# Altium schematic symbol library STM8.SchLib: 8 symbols
Pins are listed as number, name and electrical type; pins without a type are passive.

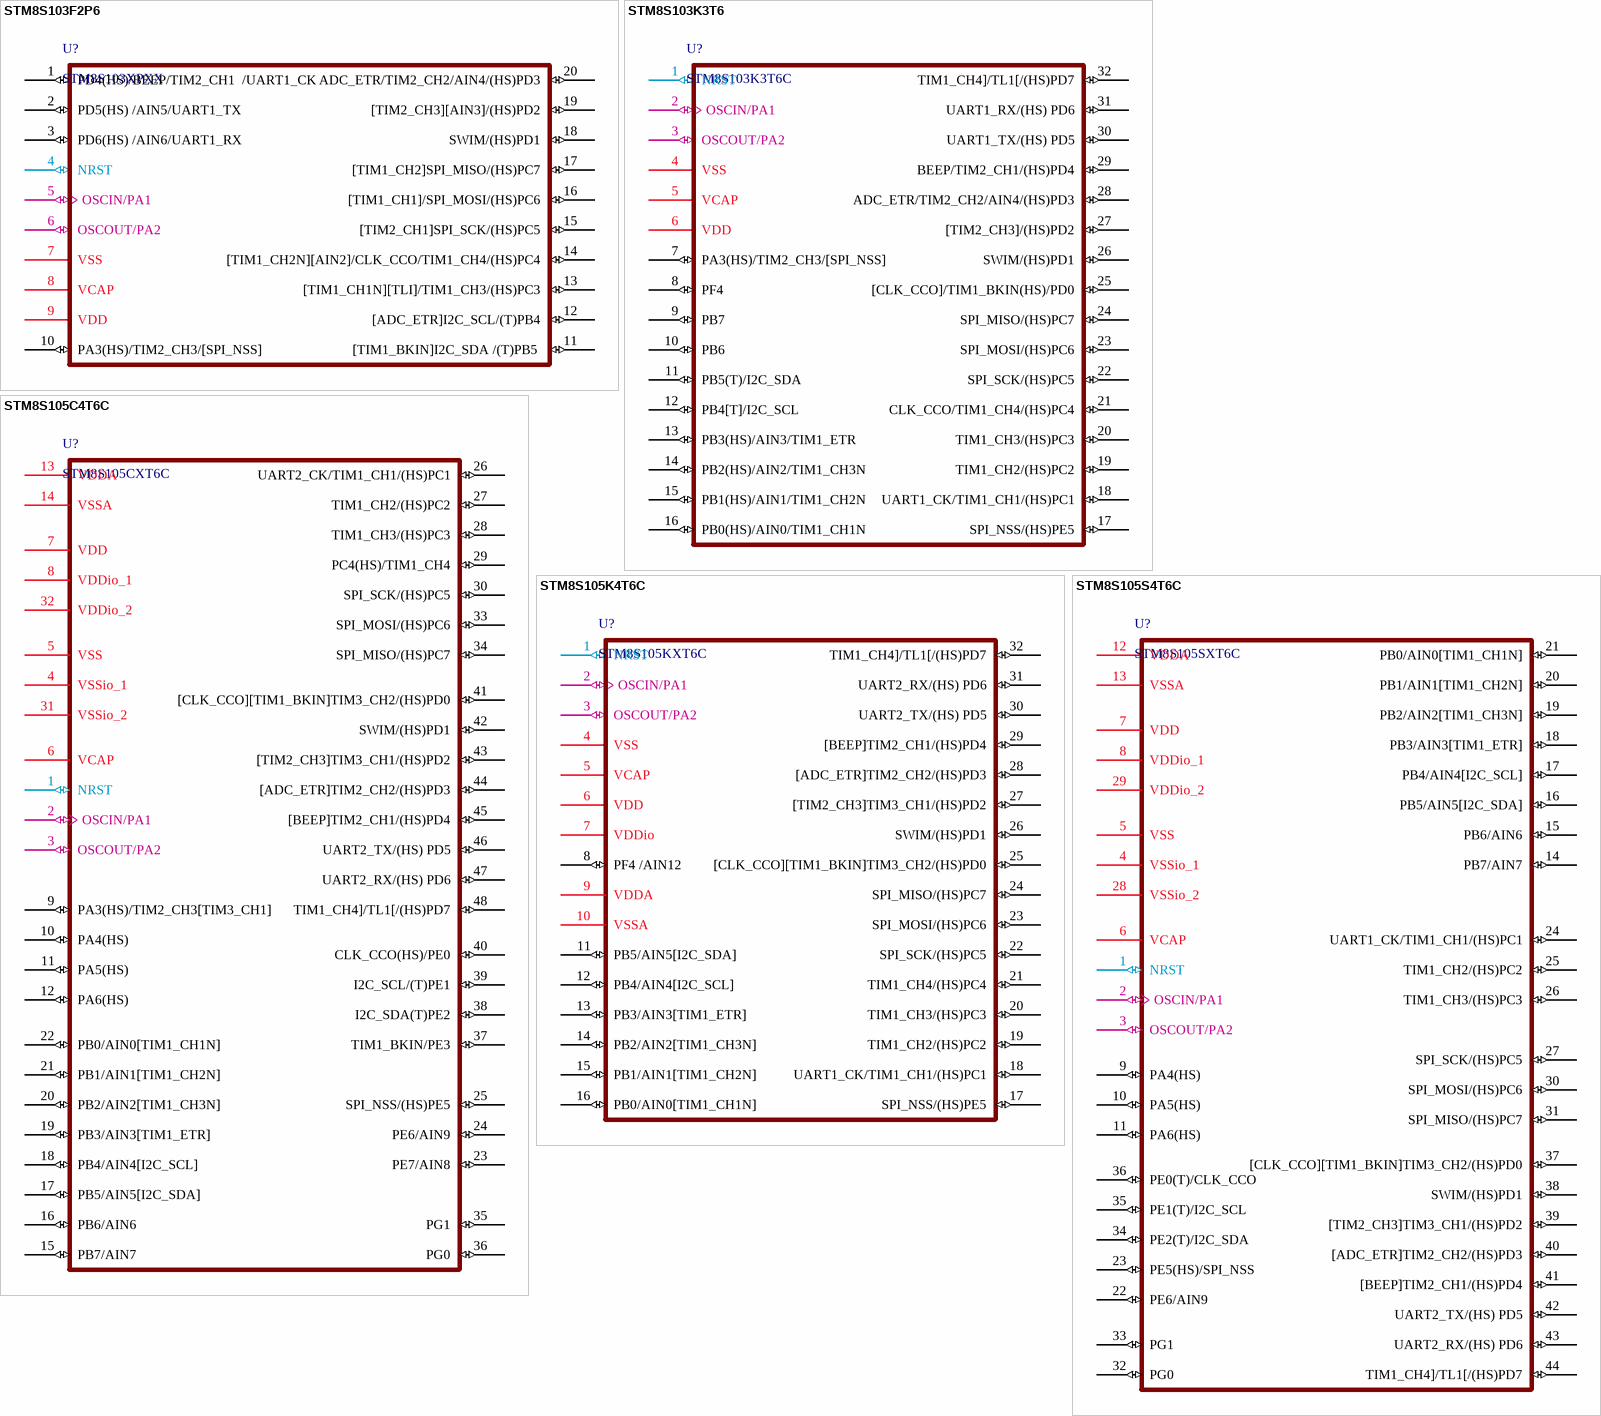
[diagram p0: symbols STM8S103F2P6 to STM8S105S4T6C]

## STM8S103F2P6
designator U?, comment STM8S103XPXX
ST 8-bit  Microcontroller
footprint TSSOP20 (20-pin, 4.40 mm body, 0.65 mm pitch)
pins: 1 PD4(HS)/BEEP/TIM2_CH1  /UART1_CK (io), 2 PD5(HS) /AIN5/UART1_TX (io), 3 PD6(HS) /AIN6/UART1_RX (io), 4 NRST (io), 5 OSCIN/PA1 (io), 6 OSCOUT/PA2 (io), 7 VSS (power), 8 VCAP (power), 9 VDD (power), 10 PA3(HS)/TIM2_CH3/[SPI_NSS]   (io), 11 [TIM1_BKIN]I2C_SDA /(T)PB5  (io), 12 [ADC_ETR]I2C_SCL/(T)PB4 (io), 13 [TIM1_CH1N][TLI]/TIM1_CH3/(HS)PC3 (io), 14 [TIM1_CH2N][AIN2]/CLK_CCO/TIM1_CH4/(HS)PC4 (io), 15 [TIM2_CH1]SPI_SCK/(HS)PC5 (io), 16 [TIM1_CH1]/SPI_MOSI/(HS)PC6 (io), 17 [TIM1_CH2]SPI_MISO/(HS)PC7 (io), 18 SWIM/(HS)PD1 (io), 19 [TIM2_CH3][AIN3]/(HS)PD2 (io), 20 ADC_ETR/TIM2_CH2/AIN4/(HS)PD3 (io)

## STM8S103K3T6
designator U?, comment STM8S103K3T6C
ST 8-bit  Microcontroller
footprint TQFP32 (Thin QFP, 32-Leads, Body 7x7mm, Pitch 0.8mm, IPC Low Density)
pins: 1 NRST (io), 2 OSCIN/PA1 (io), 3 OSCOUT/PA2 (io), 4 VSS (power), 5 VCAP (power), 6 VDD (power), 7 PA3(HS)/TIM2_CH3/[SPI_NSS]   (io), 8 PF4  (io), 9 PB7 (io), 10 PB6 (io), 11 PB5(T)/I2C_SDA (io), 12 PB4[T]/I2C_SCL (io), 13 PB3(HS)/AIN3/TIM1_ETR (io), 14 PB2(HS)/AIN2/TIM1_CH3N (io), 15 PB1(HS)/AIN1/TIM1_CH2N (io), 16 PB0(HS)/AIN0/TIM1_CH1N (io), 17 SPI_NSS/(HS)PE5 (io), 18 UART1_CK/TIM1_CH1/(HS)PC1 (io), 19 TIM1_CH2/(HS)PC2 (io), 20 TIM1_CH3/(HS)PC3 (io), 21 CLK_CCO/TIM1_CH4/(HS)PC4 (io), 22 SPI_SCK/(HS)PC5 (io), 23 SPI_MOSI/(HS)PC6 (io), 24 SPI_MISO/(HS)PC7 (io), 25 [CLK_CCO]/TIM1_BKIN(HS)/PD0 (io), 26 SWIM/(HS)PD1 (io), 27 [TIM2_CH3]/(HS)PD2 (io), 28 ADC_ETR/TIM2_CH2/AIN4/(HS)PD3 (io), 29 BEEP/TIM2_CH1/(HS)PD4 (io), 30 UART1_TX/(HS) PD5 (io), 31 UART1_RX/(HS) PD6 (io), 32 TIM1_CH4]/TL1[/(HS)PD7 (io)

## STM8S105C4T6C
designator U?, comment STM8S105CXT6C
ST 8-bit  Microcontroller
footprint LQFP48
pins: 1 NRST (io), 2 OSCIN/PA1 (io), 3 OSCOUT/PA2 (io), 4 VSSio_1 (power), 5 VSS (power), 6 VCAP (power), 7 VDD (power), 8 VDDio_1 (power), 9 PA3(HS)/TIM2_CH3[TIM3_CH1] (io), 10 PA4(HS) (io), 11 PA5(HS) (io), 12 PA6(HS) (io), 13 VDDA (power), 14 VSSA (power), 15 PB7/AIN7 (io), 16 PB6/AIN6 (io), 17 PB5/AIN5[I2C_SDA] (io), 18 PB4/AIN4[I2C_SCL] (io), 19 PB3/AIN3[TIM1_ETR] (io), 20 PB2/AIN2[TIM1_CH3N] (io), 21 PB1/AIN1[TIM1_CH2N] (io), 22 PB0/AIN0[TIM1_CH1N] (io), 23 PE7/AIN8 (io), 24 PE6/AIN9 (io), 25 SPI_NSS/(HS)PE5 (io), 26 UART2_CK/TIM1_CH1/(HS)PC1 (io), 27 TIM1_CH2/(HS)PC2 (io), 28 TIM1_CH3/(HS)PC3 (io), 29 PC4(HS)/TIM1_CH4 (io), 30 SPI_SCK/(HS)PC5 (io), 31 VSSio_2 (power), 32 VDDio_2 (power), 33 SPI_MOSI/(HS)PC6 (io), 34 SPI_MISO/(HS)PC7 (io), 35 PG1 (io), 36 PG0 (io), 37 TIM1_BKIN/PE3 (io), 38 I2C_SDA(T)PE2 (io), 39 I2C_SCL/(T)PE1 (io), 40 CLK_CCO(HS)/PE0 (io), 41 [CLK_CCO][TIM1_BKIN]TIM3_CH2/(HS)PD0 (io), 42 SWIM/(HS)PD1 (io), 43 [TIM2_CH3]TIM3_CH1/(HS)PD2 (io), 44 [ADC_ETR]TIM2_CH2/(HS)PD3 (io), 45 [BEEP]TIM2_CH1/(HS)PD4 (io), 46 UART2_TX/(HS) PD5 (io), 47 UART2_RX/(HS) PD6 (io), 48 TIM1_CH4]/TL1[/(HS)PD7 (io)
1 alternate drawing of the same symbol

## STM8S105K4T6C
designator U?, comment STM8S105KXT6C
ST 8-bit  Microcontroller
footprint TQFP32 (Thin QFP, 32-Leads, Body 7x7mm, Pitch 0.8mm, IPC Low Density)
pins: 1 NRST (io), 2 OSCIN/PA1 (io), 3 OSCOUT/PA2 (io), 4 VSS (power), 5 VCAP (power), 6 VDD (power), 7 VDDio (power), 8 PF4 /AIN12 (io), 9 VDDA (power), 10 VSSA (power), 11 PB5/AIN5[I2C_SDA] (io), 12 PB4/AIN4[I2C_SCL] (io), 13 PB3/AIN3[TIM1_ETR] (io), 14 PB2/AIN2[TIM1_CH3N] (io), 15 PB1/AIN1[TIM1_CH2N] (io), 16 PB0/AIN0[TIM1_CH1N] (io), 17 SPI_NSS/(HS)PE5 (io), 18 UART1_CK/TIM1_CH1/(HS)PC1 (io), 19 TIM1_CH2/(HS)PC2 (io), 20 TIM1_CH3/(HS)PC3 (io), 21 TIM1_CH4/(HS)PC4 (io), 22 SPI_SCK/(HS)PC5 (io), 23 SPI_MOSI/(HS)PC6 (io), 24 SPI_MISO/(HS)PC7 (io), 25 [CLK_CCO][TIM1_BKIN]TIM3_CH2/(HS)PD0 (io), 26 SWIM/(HS)PD1 (io), 27 [TIM2_CH3]TIM3_CH1/(HS)PD2 (io), 28 [ADC_ETR]TIM2_CH2/(HS)PD3 (io), 29 [BEEP]TIM2_CH1/(HS)PD4 (io), 30 UART2_TX/(HS) PD5 (io), 31 UART2_RX/(HS) PD6 (io), 32 TIM1_CH4]/TL1[/(HS)PD7 (io)

## STM8S105S4T6C
designator U?, comment STM8S105SXT6C
ST 8-bit  Microcontroller
footprint TQFP44 (Thin QFP, 44-Leads, Body 10x10mm, Pitch 0.8mm, IPC Low Density)
pins: 1 NRST (io), 2 OSCIN/PA1 (io), 3 OSCOUT/PA2 (io), 4 VSSio_1 (power), 5 VSS (power), 6 VCAP (power), 7 VDD (power), 8 VDDio_1 (power), 9 PA4(HS) (io), 10 PA5(HS) (io), 11 PA6(HS) (io), 12 VDDA (power), 13 VSSA (power), 14 PB7/AIN7 (io), 15 PB6/AIN6 (io), 16 PB5/AIN5[I2C_SDA] (io), 17 PB4/AIN4[I2C_SCL] (io), 18 PB3/AIN3[TIM1_ETR] (io), 19 PB2/AIN2[TIM1_CH3N] (io), 20 PB1/AIN1[TIM1_CH2N] (io), 21 PB0/AIN0[TIM1_CH1N] (io), 22 PE6/AIN9 (io), 23 PE5(HS)/SPI_NSS (io), 24 UART1_CK/TIM1_CH1/(HS)PC1 (io), 25 TIM1_CH2/(HS)PC2 (io), 26 TIM1_CH3/(HS)PC3 (io), 27 SPI_SCK/(HS)PC5 (io), 28 VSSio_2 (power), 29 VDDio_2 (power), 30 SPI_MOSI/(HS)PC6 (io), 31 SPI_MISO/(HS)PC7 (io), 32 PG0 (io), 33 PG1 (io), 34 PE2(T)/I2C_SDA (io), 35 PE1(T)/I2C_SCL (io), 36 PE0(T)/CLK_CCO (io), 37 [CLK_CCO][TIM1_BKIN]TIM3_CH2/(HS)PD0 (io), 38 SWIM/(HS)PD1 (io), 39 [TIM2_CH3]TIM3_CH1/(HS)PD2 (io), 40 [ADC_ETR]TIM2_CH2/(HS)PD3 (io), 41 [BEEP]TIM2_CH1/(HS)PD4 (io), 42 UART2_TX/(HS) PD5 (io), 43 UART2_RX/(HS) PD6 (io), 44 TIM1_CH4]/TL1[/(HS)PD7 (io)

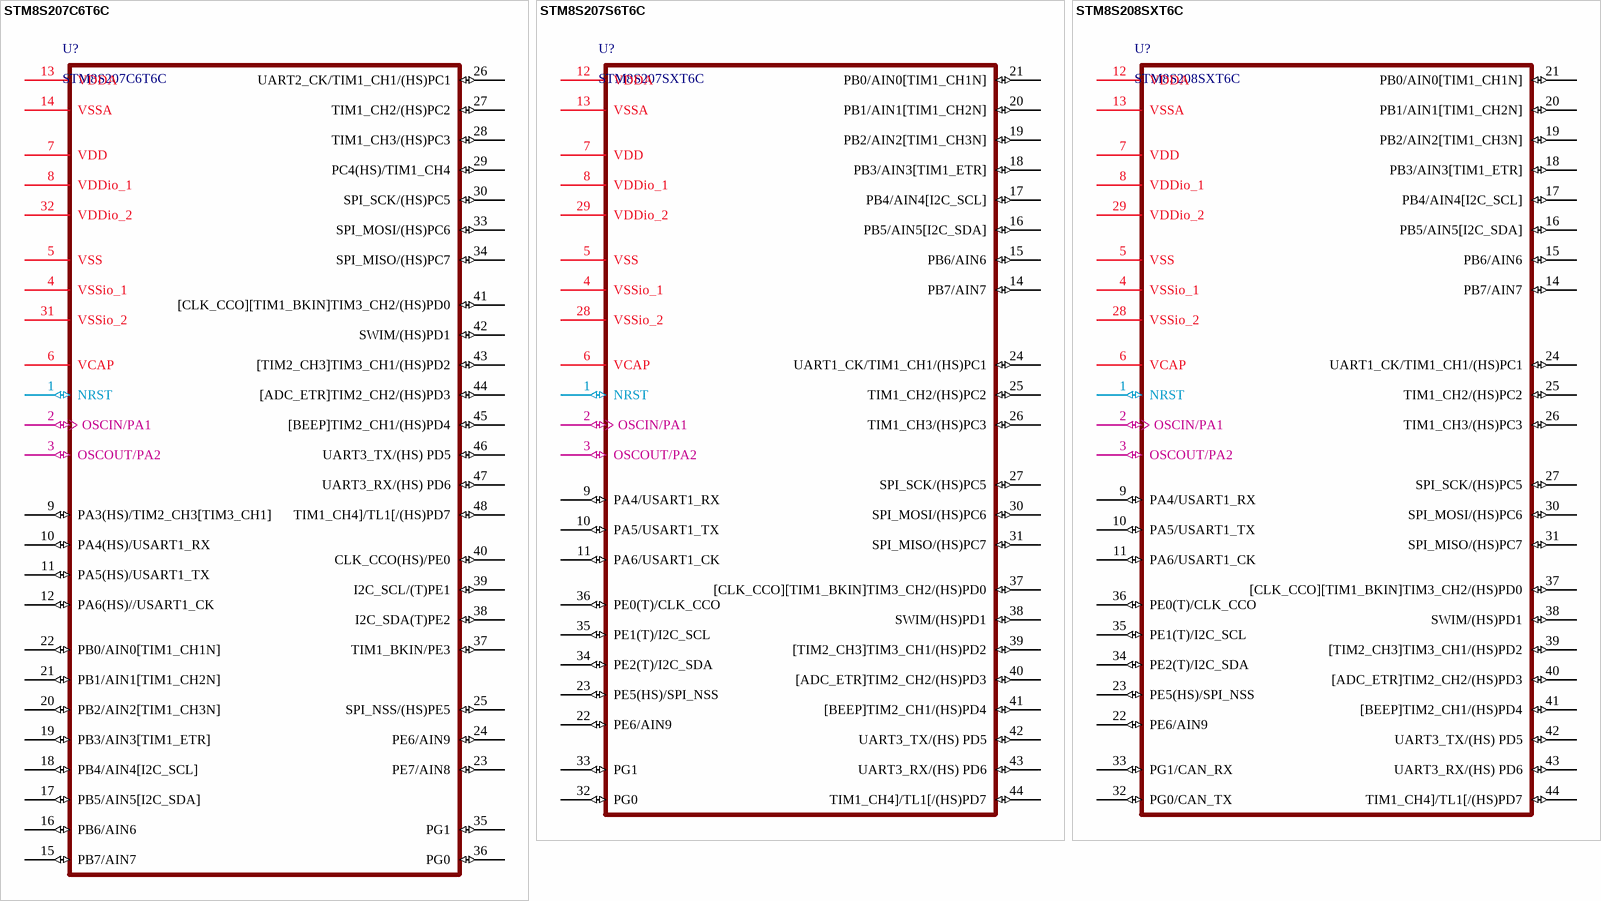
[diagram p1: symbols STM8S207C6T6C to STM8S208SXT6C]

## STM8S207C6T6C
designator U?
ST 8-bit  Microcontroller
footprint LQFP48
pins: 1 NRST (io), 2 OSCIN/PA1 (io), 3 OSCOUT/PA2 (io), 4 VSSio_1 (power), 5 VSS (power), 6 VCAP (power), 7 VDD (power), 8 VDDio_1 (power), 9 PA3(HS)/TIM2_CH3[TIM3_CH1] (io), 10 PA4(HS)/USART1_RX (io), 11 PA5(HS)/USART1_TX (io), 12 PA6(HS)//USART1_CK (io), 13 VDDA (power), 14 VSSA (power), 15 PB7/AIN7 (io), 16 PB6/AIN6 (io), 17 PB5/AIN5[I2C_SDA] (io), 18 PB4/AIN4[I2C_SCL] (io), 19 PB3/AIN3[TIM1_ETR] (io), 20 PB2/AIN2[TIM1_CH3N] (io), 21 PB1/AIN1[TIM1_CH2N] (io), 22 PB0/AIN0[TIM1_CH1N] (io), 23 PE7/AIN8 (io), 24 PE6/AIN9 (io), 25 SPI_NSS/(HS)PE5 (io), 26 UART2_CK/TIM1_CH1/(HS)PC1 (io), 27 TIM1_CH2/(HS)PC2 (io), 28 TIM1_CH3/(HS)PC3 (io), 29 PC4(HS)/TIM1_CH4 (io), 30 SPI_SCK/(HS)PC5 (io), 31 VSSio_2 (power), 32 VDDio_2 (power), 33 SPI_MOSI/(HS)PC6 (io), 34 SPI_MISO/(HS)PC7 (io), 35 PG1 (io), 36 PG0 (io), 37 TIM1_BKIN/PE3 (io), 38 I2C_SDA(T)PE2 (io), 39 I2C_SCL/(T)PE1 (io), 40 CLK_CCO(HS)/PE0 (io), 41 [CLK_CCO][TIM1_BKIN]TIM3_CH2/(HS)PD0 (io), 42 SWIM/(HS)PD1 (io), 43 [TIM2_CH3]TIM3_CH1/(HS)PD2 (io), 44 [ADC_ETR]TIM2_CH2/(HS)PD3 (io), 45 [BEEP]TIM2_CH1/(HS)PD4 (io), 46 UART3_TX/(HS) PD5 (io), 47 UART3_RX/(HS) PD6 (io), 48 TIM1_CH4]/TL1[/(HS)PD7 (io)

## STM8S207S6T6C
designator U?, comment STM8S207SXT6C
ST 8-bit  Microcontroller
footprint TQFP44 (Thin QFP, 44-Leads, Body 10x10mm, Pitch 0.8mm, IPC Low Density)
pins: 1 NRST (io), 2 OSCIN/PA1 (io), 3 OSCOUT/PA2 (io), 4 VSSio_1 (power), 5 VSS (power), 6 VCAP (power), 7 VDD (power), 8 VDDio_1 (power), 9 PA4/USART1_RX (io), 10 PA5/USART1_TX (io), 11 PA6/USART1_CK (io), 12 VDDA (power), 13 VSSA (power), 14 PB7/AIN7 (io), 15 PB6/AIN6 (io), 16 PB5/AIN5[I2C_SDA] (io), 17 PB4/AIN4[I2C_SCL] (io), 18 PB3/AIN3[TIM1_ETR] (io), 19 PB2/AIN2[TIM1_CH3N] (io), 20 PB1/AIN1[TIM1_CH2N] (io), 21 PB0/AIN0[TIM1_CH1N] (io), 22 PE6/AIN9 (io), 23 PE5(HS)/SPI_NSS (io), 24 UART1_CK/TIM1_CH1/(HS)PC1 (io), 25 TIM1_CH2/(HS)PC2 (io), 26 TIM1_CH3/(HS)PC3 (io), 27 SPI_SCK/(HS)PC5 (io), 28 VSSio_2 (power), 29 VDDio_2 (power), 30 SPI_MOSI/(HS)PC6 (io), 31 SPI_MISO/(HS)PC7 (io), 32 PG0 (io), 33 PG1 (io), 34 PE2(T)/I2C_SDA (io), 35 PE1(T)/I2C_SCL (io), 36 PE0(T)/CLK_CCO (io), 37 [CLK_CCO][TIM1_BKIN]TIM3_CH2/(HS)PD0 (io), 38 SWIM/(HS)PD1 (io), 39 [TIM2_CH3]TIM3_CH1/(HS)PD2 (io), 40 [ADC_ETR]TIM2_CH2/(HS)PD3 (io), 41 [BEEP]TIM2_CH1/(HS)PD4 (io), 42 UART3_TX/(HS) PD5 (io), 43 UART3_RX/(HS) PD6 (io), 44 TIM1_CH4]/TL1[/(HS)PD7 (io)

## STM8S208SXT6C
designator U?
ST 8-bit  Microcontroller
footprint TQFP44 (Thin QFP, 44-Leads, Body 10x10mm, Pitch 0.8mm, IPC Low Density)
pins: 1 NRST (io), 2 OSCIN/PA1 (io), 3 OSCOUT/PA2 (io), 4 VSSio_1 (power), 5 VSS (power), 6 VCAP (power), 7 VDD (power), 8 VDDio_1 (power), 9 PA4/USART1_RX (io), 10 PA5/USART1_TX (io), 11 PA6/USART1_CK (io), 12 VDDA (power), 13 VSSA (power), 14 PB7/AIN7 (io), 15 PB6/AIN6 (io), 16 PB5/AIN5[I2C_SDA] (io), 17 PB4/AIN4[I2C_SCL] (io), 18 PB3/AIN3[TIM1_ETR] (io), 19 PB2/AIN2[TIM1_CH3N] (io), 20 PB1/AIN1[TIM1_CH2N] (io), 21 PB0/AIN0[TIM1_CH1N] (io), 22 PE6/AIN9 (io), 23 PE5(HS)/SPI_NSS (io), 24 UART1_CK/TIM1_CH1/(HS)PC1 (io), 25 TIM1_CH2/(HS)PC2 (io), 26 TIM1_CH3/(HS)PC3 (io), 27 SPI_SCK/(HS)PC5 (io), 28 VSSio_2 (power), 29 VDDio_2 (power), 30 SPI_MOSI/(HS)PC6 (io), 31 SPI_MISO/(HS)PC7 (io), 32 PG0/CAN_TX (io), 33 PG1/CAN_RX (io), 34 PE2(T)/I2C_SDA (io), 35 PE1(T)/I2C_SCL (io), 36 PE0(T)/CLK_CCO (io), 37 [CLK_CCO][TIM1_BKIN]TIM3_CH2/(HS)PD0 (io), 38 SWIM/(HS)PD1 (io), 39 [TIM2_CH3]TIM3_CH1/(HS)PD2 (io), 40 [ADC_ETR]TIM2_CH2/(HS)PD3 (io), 41 [BEEP]TIM2_CH1/(HS)PD4 (io), 42 UART3_TX/(HS) PD5 (io), 43 UART3_RX/(HS) PD6 (io), 44 TIM1_CH4]/TL1[/(HS)PD7 (io)